# Altium footprint library Diodes.PcbLib: 5 footprints
Each footprint in its own frame and in the unit in brackets; x right, y up, seen from the top. Pads: shape width x height; smd on the part's side, far side on the other; paste and mask are expansions set on the pad; w line width, h text height; cw(c..) or ccw(c..) is an arc to the next point about the centre after c.
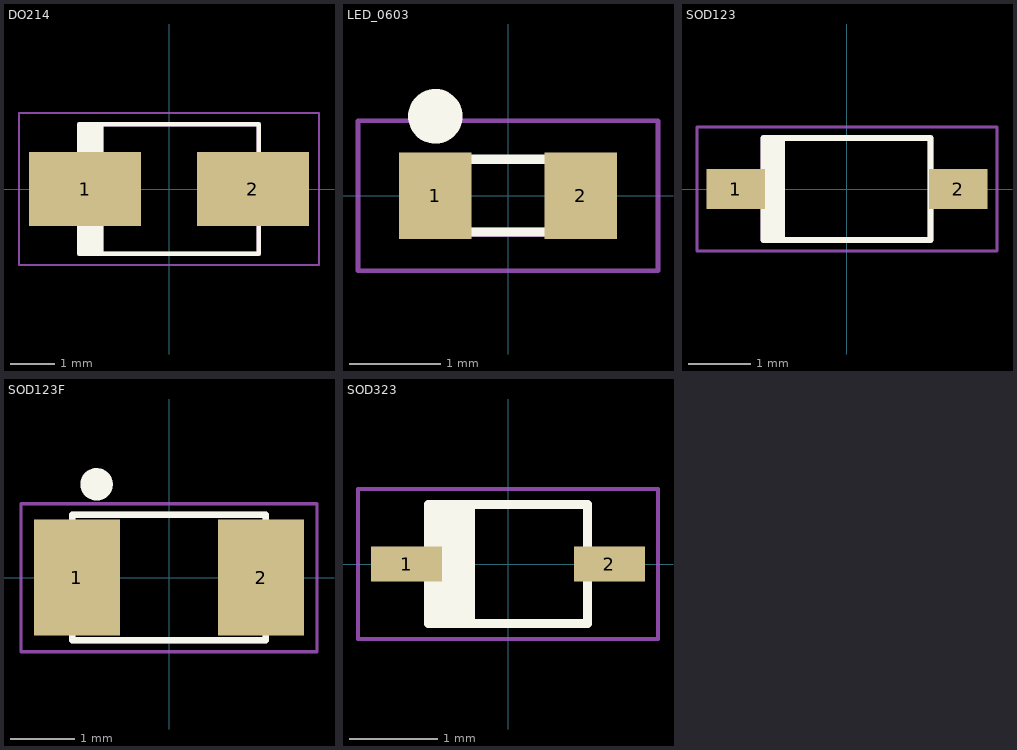
[diagram p0: the footprints below, top view; thin cyan lines are the x and y axes]

## DO214 [mm] "Molded Diode, 2-Leads, Body 4.30x2.63mm, IPC Medium Density"
height 2.62
pads (2):
  rect 2.5x1.65 smd: 1(-1.875,0) 2(1.875,0)
Top Overlay:
  rectangle: -2,-1.45 -1.462,1.45
  lines w0.1: -2,-1.45 2,-1.45 2,1.45 -2,1.45 -2,-1.45
Mechanical 2:
  rectangle: -2,-1.45 -1.462,1.45
  lines w0.05: -3.35,-1.7 3.35,-1.7 3.35,1.7 -3.35,1.7 -3.35,-1.7
  lines w0.1: -2,-1.45 -2,1.45 2,1.45 2,-1.45 -2,-1.45
3D body "DO214.STEP": height 2.4, standoff 0, extent -2.6,-1.3 2.6,1.3

## LED_0603 [mm]
pads (2):
  rect 0.8x0.95 smd: 1(-0.8,0) 2(0.8,0)
Top Overlay:
  circle w0.4: c-0.8,0.875 r0.1
  lines w0.1: -0.8,-0.398 0.8,-0.398 0.8,0.402 -0.8,0.402 -0.8,-0.398 ; -0.793,-0.4 0.807,-0.4 0.807,0.4 -0.793,0.4 -0.793,-0.4
Mechanical 2:
  lines w0.05: -1.65,-0.825 -1.65,0.825 1.65,0.825 1.65,-0.825 -1.65,-0.825
  lines w0.1: -0.8,-0.4 0.8,-0.4 0.8,0.398 -0.8,0.398 -0.8,-0.4 ; -0.793,-0.402 0.807,-0.402 0.807,0.398 -0.793,0.398 -0.793,-0.402
3D body "LED_0603.step": height 0.68, standoff 0, extent -0.8,-0.375 0.85,0.35

## SOD123 [mm] "SODFL, 2-Leads, Body 1.60x3.80mm, IPC Medium Density"
height 1.15
pads (2):
  rect 0.95x0.65 smd: 1(-1.8,0) 2(1.8,0)
Top Overlay:
  rectangle: -1.35,-0.825 -1,0.825
  lines w0.1: -1.35,-0.825 -1.35,0.825 1.35,0.825 1.35,-0.825 -1.35,-0.825
Mechanical 2:
  lines w0.05: -2.425,-1 -2.425,1 2.425,1 2.425,-1 -2.425,-1
  lines w0.1: -1.35,-0.825 1.35,-0.825 1.35,0.825 -1.35,0.825 -1.35,-0.825
3D body "SOD123.STEP": height 1.18, standoff 0, extent -1.95,-0.9 1.95,0.9

## SOD123F [mm] "SODFL, 2-Leads, Body 1.73x3.60mm, IPC Medium Density"
height 1.08
pads (2):
  rect 1.34x1.8 smd: 1(-1.43,0) 2(1.43,0)
Top Overlay:
  circle w0.254: c-1.125,1.45 r0.125
  lines w0.1: -1.5,-0.975 -1.5,0.975 1.5,0.975 1.5,-0.975 -1.5,-0.975
Mechanical 2:
  lines w0.05: -2.3,-1.15 -2.3,1.15 2.3,1.15 2.3,-1.15 -2.3,-1.15
  lines w0.1: -1.5,-0.975 1.5,-0.975 1.5,0.975 -1.5,0.975 -1.5,-0.975
3D body "SOD123F.step": height 1.2, standoff -0.01, extent -1.9,-0.85 1.85,0.85

## SOD323 [mm] "SODFL, 2-Leads, Body 1.25x2.50mm, IPC Medium Density"
height 0.9
pads (2):
  rect 0.8x0.4 smd: 1(-1.15,0) 2(1.15,0)
Top Overlay:
  rectangle: -0.9,-0.675 -0.375,0.675
  lines w0.1: -0.9,-0.675 0.9,-0.675 0.9,0.675 -0.9,0.675 -0.9,-0.675
Mechanical 2:
  lines w0.05: -1.7,-0.85 1.7,-0.85 1.7,0.85 -1.7,0.85 -1.7,-0.85
  lines w0.1: -0.9,-0.675 -0.9,0.675 0.9,0.675 0.9,-0.675 -0.9,-0.675
3D body "SOD323.STEP": height 0.79, standoff -0.08, extent -1.4,-0.675 1.3,0.675